# Altium schematic symbol library P9242.SchLib: 1 symbol
Pins are listed as number, name and electrical type; pins without a type are passive.

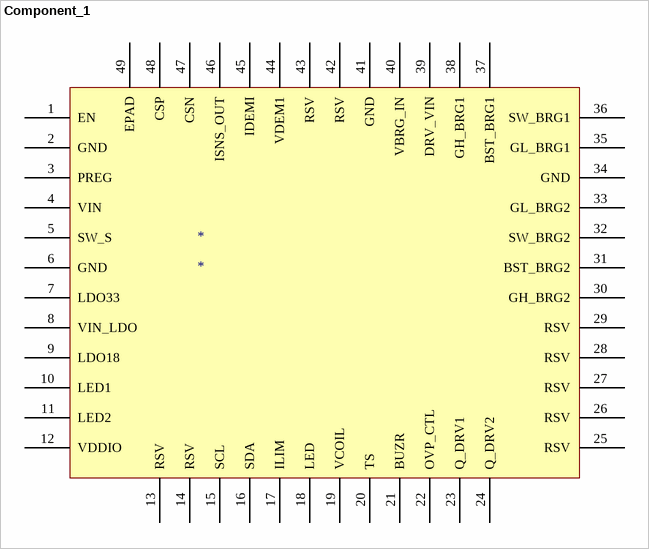
[diagram p0: symbol Component_1]

## Component_1
designator *
footprint QFN40P600X600X100-49N
pins: 1 EN, 2 GND, 3 PREG, 4 VIN, 5 SW_S, 6 GND, 7 LDO33, 8 VIN_LDO, 9 LDO18, 10 LED1, 11 LED2, 12 VDDIO, 13 RSV, 14 RSV, 15 SCL, 16 SDA, 17 ILIM, 18 LED, 19 VCOIL, 20 TS, 21 BUZR, 22 OVP_CTL, 23 Q_DRV1, 24 Q_DRV2, 25 RSV, 26 RSV, 27 RSV, 28 RSV, 29 RSV, 30 GH_BRG2, 31 BST_BRG2, 32 SW_BRG2, 33 GL_BRG2, 34 GND, 35 GL_BRG1, 36 SW_BRG1, 37 BST_BRG1, 38 GH_BRG1, 39 DRV_VIN, 40 VBRG_IN, 41 GND, 42 RSV, 43 RSV, 44 VDEM1, 45 IDEMI, 46 ISNS_OUT, 47 CSN, 48 CSP, 49 EPAD